# Altium schematic symbol library SCH - MCU - ATMEGA - MICROCHIP ATMEGA48A-CCU UFBGA32.SchLib: 1 symbol
Pins are listed as number, name and electrical type; pins without a type are passive.

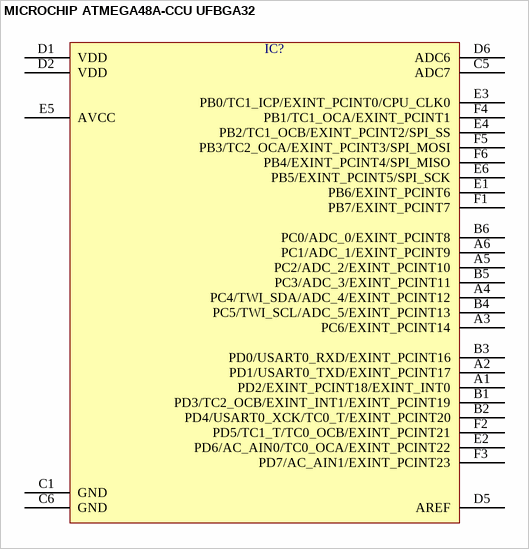
[diagram p0: symbol MICROCHIP ATMEGA48A-CCU UFBGA32]

## MICROCHIP ATMEGA48A-CCU UFBGA32
designator IC?  (value not drawn)
pins: A1 PD2/EXINT_PCINT18/EXINT_INT0, A2 PD1/USART0_TXD/EXINT_PCINT17, A3 PC6/EXINT_PCINT14, A4 PC4/TWI_SDA/ADC_4/EXINT_PCINT12, A5 PC2/ADC_2/EXINT_PCINT10, A6 PC1/ADC_1/EXINT_PCINT9, B1 PD3/TC2_OCB/EXINT_INT1/EXINT_PCINT19, B2 PD4/USART0_XCK/TC0_T/EXINT_PCINT20, B3 PD0/USART0_RXD/EXINT_PCINT16, B4 PC5/TWI_SCL/ADC_5/EXINT_PCINT13, B5 PC3/ADC_3/EXINT_PCINT11, B6 PC0/ADC_0/EXINT_PCINT8, C1 GND, C5 ADC7, C6 GND, D1 VDD, D2 VDD, D5 AREF, D6 ADC6, E1 PB6/EXINT_PCINT6, E2 PD6/AC_AIN0/TC0_OCA/EXINT_PCINT22, E3 PB0/TC1_ICP/EXINT_PCINT0/CPU_CLK0, E4 PB2/TC1_OCB/EXINT_PCINT2/SPI_SS, E5 AVCC, E6 PB5/EXINT_PCINT5/SPI_SCK, F1 PB7/EXINT_PCINT7, F2 PD5/TC1_T/TC0_OCB/EXINT_PCINT21, F3 PD7/AC_AIN1/EXINT_PCINT23, F4 PB1/TC1_OCA/EXINT_PCINT1, F5 PB3/TC2_OCA/EXINT_PCINT3/SPI_MOSI, F6 PB4/EXINT_PCINT4/SPI_MISO